# EAGLE library part 128X64_GLCD_ST7920 (library GadgetFactory_v1)
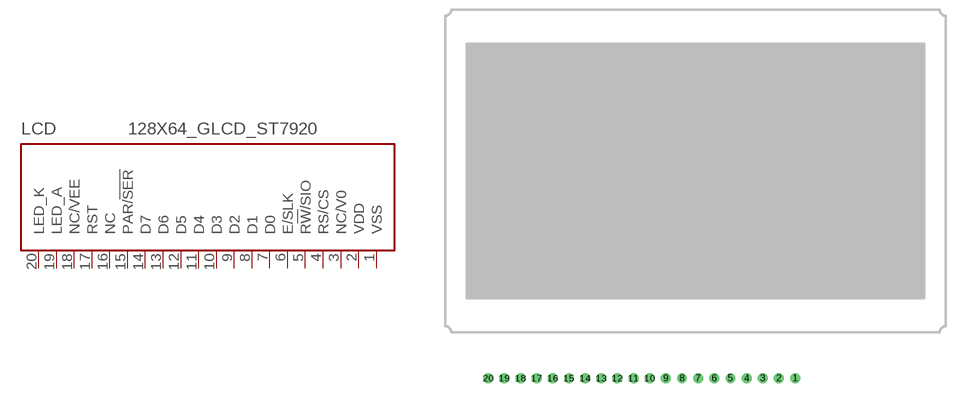
[diagram p2: symbol with the pads of 128X64_GLCD; footprint 128X64_GLCD]

Designator prefix LCD

## 128X64_GLCD_ST7920"  [128X64_GLCD]
1  VSS  pwr
2  VDD  pwr
3  NC/V0  pas
4  RS/CS  in
5  R!W!/SIO  in
6  E/SLK  in
7  D0
8  D1
9  D2
10  D3
11  D4
12  D5
13  D6
14  D7
15  PAR/!SER  in
16  NC  nc
17  RST  in
18  NC/VEE  out
19  LED_A  pas
20  LED_K  pas

## Footprint 128X64_GLCD (pad centres in mm)
drill 1 pad 1.56: 1 15.66,-32.6; 2 13.12,-32.6; 3 10.58,-32.6; 4 8.04,-32.6; 5 5.5,-32.6; 6 2.96,-32.6; 7 0.42,-32.6; 8 -2.12,-32.6; 9 -4.66,-32.6; 10 -7.2,-32.6; 11 -9.74,-32.6; 12 -12.28,-32.6; 13 -14.82,-32.6; 14 -17.36,-32.6; 15 -19.9,-32.6; 16 -22.44,-32.6; 17 -24.98,-32.6; 18 -27.52,-32.6; 19 -30.06,-32.6; 20 -32.6,-32.6